# EAGLE library part 2_SOLID_RELAY (library rx)
Multi connection point. Often used as Generic Header-pin footprint for 0.1 inch spaced/style header connections On any of the 0.1 inch spaced packages, you can populate with these: Break Away Headers - Straight <https://www.sparkfun.com/products/116> (PRT-00116) Break Away Male Headers - Right Angle <https://www.sparkfun.com/products/553> (PRT-00553) Female Headers <https://www.sparkfun.com/products/115> (PRT-00115) Break Away Headers - Machine Pin <https://www.sparkfun.com/products/117> (PRT-00117) Break Away Female Headers - Swiss Machine Pin <https://www.sparkfun.com/products/743> (PRT-00743)
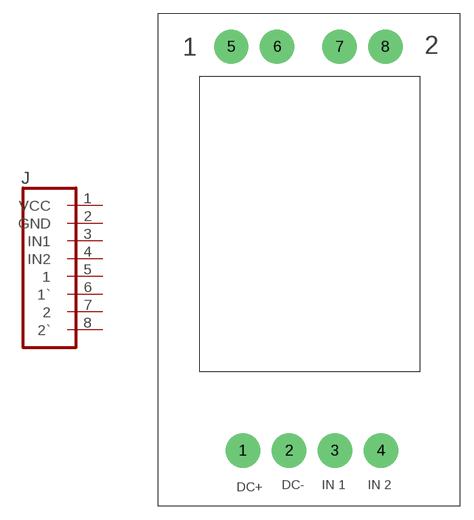
[diagram p4: symbol with the pads of 2_SOLID_RELAY; footprint 2_SOLID_RELAY]

Designator prefix J

## 2_SOLID_RELAY  [2_SOLID_RELAY]
1  VCC
2  GND
3  IN1
4  IN2
5  1
6  1`
7  2
8  2`

## Footprint 2_SOLID_RELAY (pad centres in mm)
Plated Through Hole - 2x4 Specifications: Pin count:8 Pin pitch:0.1" Example device(s): CONN_04x2
drill 2 pad 3.81: 1 -6.23,-29.32; 2 -1.15,-29.32; 3 3.93,-29.32; 4 9.01,-29.32; 5 -7.53,15.38; 6 -2.45,15.38; 7 4.43,15.38; 8 9.51,15.38